# Altium footprint library 89C51.PcbLib: 27 footprints (part 1 of 2)
Each footprint in its own frame and in the unit in brackets; x right, y up, seen from the top. Pads: shape width x height; smd on the part's side, far side on the other; paste and mask are expansions set on the pad; w line width, h text height; cw(c..) or ccw(c..) is an arc to the next point about the centre after c.
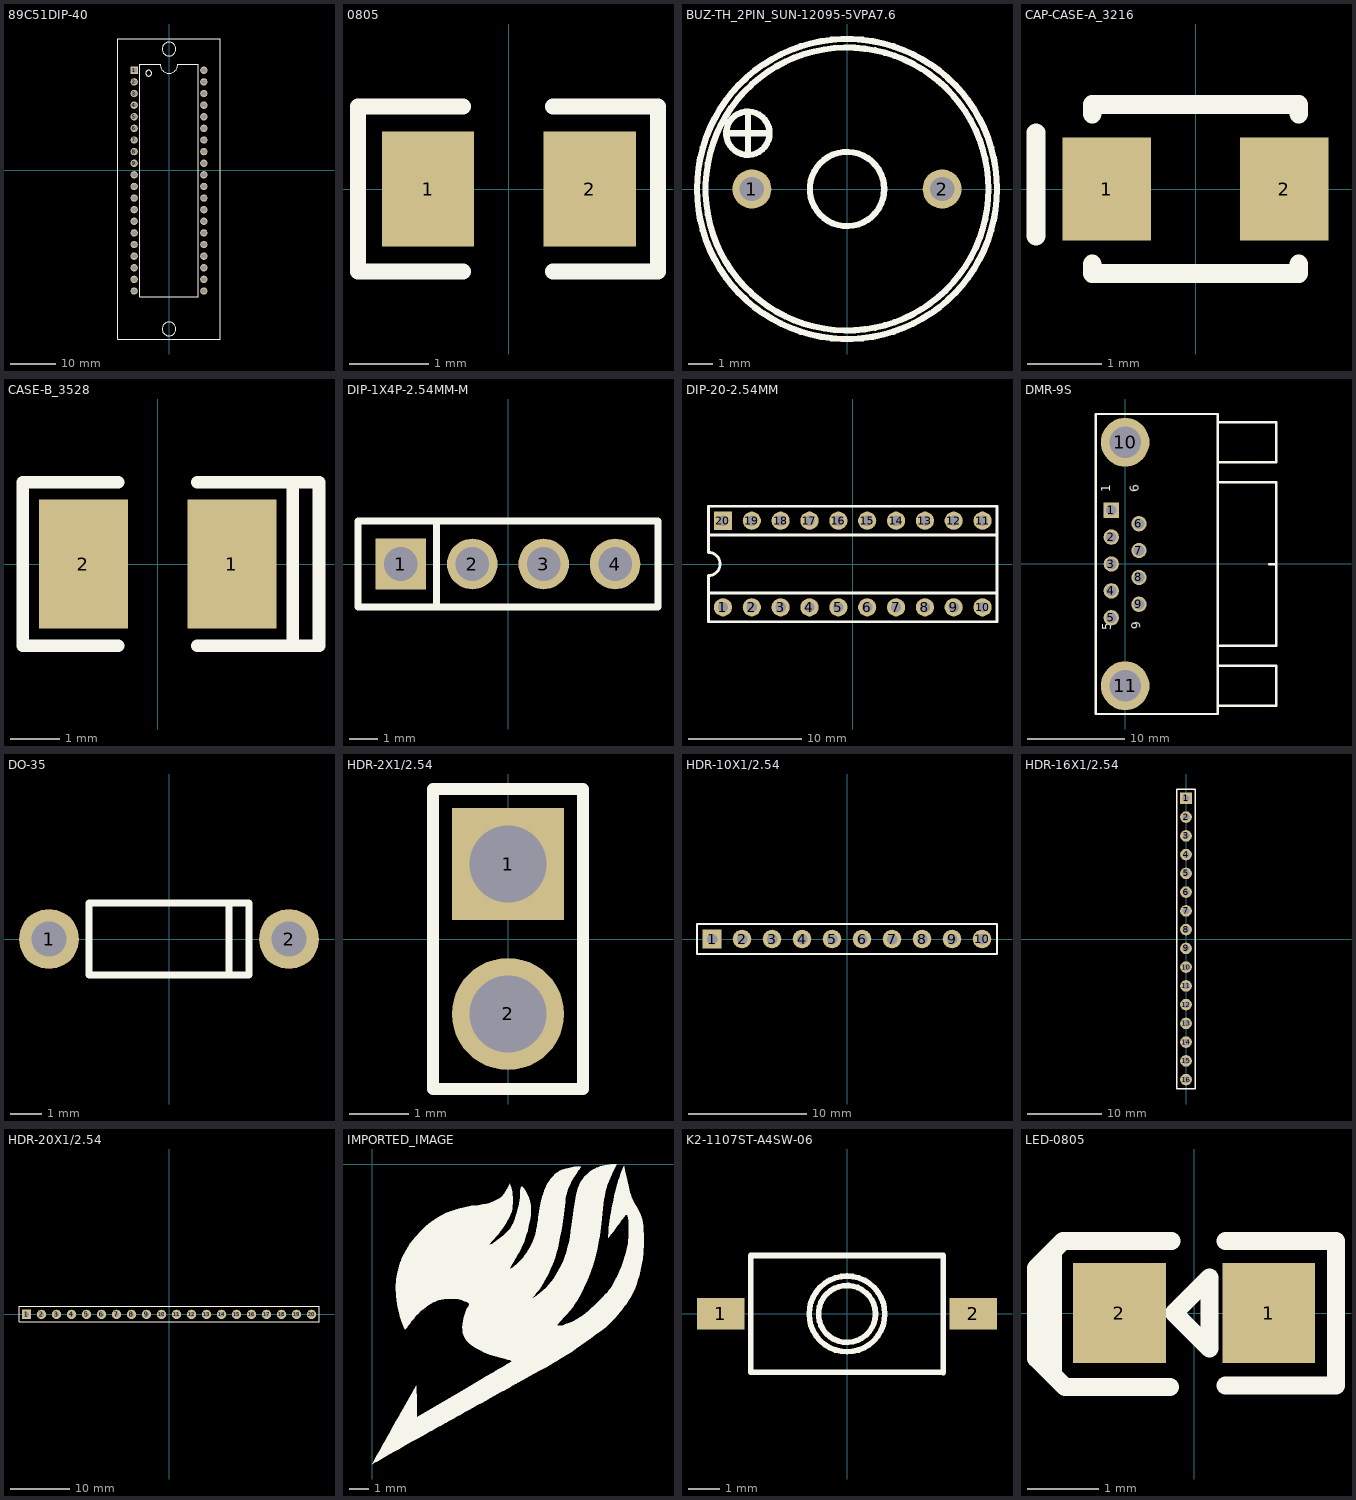
[diagram p0: the footprints below, top view; thin cyan lines are the x and y axes]

## 89C51DIP-40 [mil]
pads (40):
  rect 63x63 hole 31.5 slot 45.28 at 0 deg: 1(-300,860)
  round 63 hole 31.5 slot 45.28 at 0 deg: 2(-300,760) 3(-300,660) 4(-300,560) 5(-300,460) 6(-300,360) 7(-300,260) 8(-300,160) 9(-300,60) 10(-300,-40) 11(-300,-140) 12(-300,-240) 13(-300,-340) 14(-300,-440) 15(-300,-540) 16(-300,-640) 17(-300,-740) 18(-300,-840) 19(-300,-940) 20(-300,-1040) 21(300,-1040) 22(300,-940) 23(300,-840) 24(300,-740) 25(300,-640) 26(300,-540) 27(300,-440) 28(300,-340) 29(300,-240) 30(300,-140) 31(300,-40) 32(300,60) 33(300,160) 34(300,260) 35(300,360) 36(300,460) 37(300,560) 38(300,660) 39(300,760) 40(300,860)
Top Overlay:
  circle w10: c-175,835 r25
  circle w10: c0,-1366.77 r59.06
  circle w10: c0,1042.68 r59.06
  lines w10: -443.31,-1453.39 443.31,-1453.39 443.31,1129.29 -443.31,1129.29 -443.31,-1453.39 ; -250,-1090 250,-1090 250,910 75,910 cw(c0,910) -75,910 -250,910 -250,-1090

## 0805 [mm]
pads (2):
  rect 1.16x1.45 smd: 1(-1.016,0) 2(1.016,0)
Top Overlay:
  lines w0.2: -0.577,-1.035 -1.897,-1.035 -1.897,1.035 -0.577,1.035 ; 0.555,-1.035 1.875,-1.035 1.875,1.035 0.555,1.035

## BUZ-TH_2PIN_SUN-12095-5VPA7.6 [mm]
pads (2):
  round 1.6 hole 1: 1(-3.9,0) 2(3.9,0)
Top Overlay:
  circle w0.254: c-4.064,2.286 r0.889
  circle w0.254: c0,0 r1.524
  circle w0.254: c0,0 r5.8
  circle w0.254: c0,0 r6.15
  lines w0.254: -4.953,2.286 -3.175,2.286 ; -4.064,1.397 -4.064,3.175

## CAP-CASE-A_3216 [mm]
pads (2):
  rect 1.2x1.4 smd: 1(-1.2,0) 2(1.2,0)
Top Overlay:
  lines w0.254: -2.159,-0.635 -2.159,0.762 ; -1.397,-1.016 -1.397,-1.143 1.397,-1.143 1.397,-1.016 ; -1.397,1.016 -1.397,1.143 1.397,1.143 1.397,1.016

## CASE-B_3528 [mm]
pads (2):
  rect 1.8x2.6 smd: 1(1.501,0) 2(-1.501,0)
Top Overlay:
  lines w0.254: -0.8,-1.65 -2.727,-1.65 -2.727,1.65 -0.8,1.65 ; 0.8,-1.65 2.727,-1.65 ; 0.8,1.65 2.727,1.65 ; 2.727,-1.65 3.26,-1.65 3.26,1.65 2.727,1.65 ; 2.727,-1.65 2.727,1.65

## DIP-1X4P-2.54MM-M [mm]
pads (4):
  rect 1.8x1.8 hole 1.2: 1(-3.81,0)
  round 1.8 hole 1.2: 2(-1.27,0) 3(1.27,0) 4(3.81,0)
Top Overlay:
  lines w0.254: -2.54,-1.524 -2.54,1.524 ; -5.334,-1.524 -5.334,1.524 5.334,1.524 5.334,-1.524 -5.334,-1.524

## DIP-20-2.54MM [mil]
pads (20):
  round 63 hole 35.43: 1(-450,-150) 2(-350,-150) 3(-250,-150) 4(-150,-150) 5(-50,-150) 6(50,-150) 7(150,-150) 8(250,-150) 9(350,-150) 10(450,-150) 11(450,150) 12(350,150) 13(250,150) 14(150,150) 15(50,150) 16(-50,150) 17(-150,150) 18(-250,150) 19(-350,150)
  rect 63x63 hole 35.43: 20(-450,150)
Top Overlay:
  lines w10: -500,-100 -500,-40 ccw(c-500,0) -500,40 -500,100 ; -500,-100 500,-100 ; -500,-100 -500,-200 500,-200 500,-100 ; -500,100 500,100 ; -500,100 -500,200 500,200 500,100 ; 500,-100 500,100

## DMR-9S [mil]
pads (11):
  rect 62x62 hole 43.31: 1(-55.91,217.31)
  round 62 hole 43.31: 2(-55.91,108.66) 3(-55.91,-0.01) 4(-55.91,-108.67) 5(-55.91,-217.32) 6(55.91,162.99) 7(55.91,54.33) 8(55.91,-54.34) 9(55.91,-163)
  round 196.85 hole 127.95: 10(-0.01,492.12) 11(-0.01,-492.12)
Top Overlay:
  lines w10: 374.01,-573.62 610.24,-573.62 ; 374.01,-410.63 610.24,-410.63 610.24,-572.44 ; 374.01,-329.92 610.24,-329.92 610.24,329.52 374.01,329.52 ; 374.01,410.63 610.24,410.63 ; 374,573.61 610.21,573.61 610.21,411.81 ; 581.89,-0.2 609.45,-0.2 ; -118.11,-606.3 -118.11,606.3 374.01,606.3 374.01,-606.3 -118.11,-606.3
  text "6" at 57.5,292.14 h35
  text "9" at 63.5,-261.86 h35
  text "5" at -56.41,-267.69 h35
  text "1" at -60.41,289.31 h35

## DO-35 [mil]
pads (2):
  round 75 hole 43.31: 1(-150,0) 2(150,0)
Top Overlay:
  lines w9: 75,-45 75,45 ; -100,-45 -100,45 100,45 100,-45 -100,-45

## HDR-2X1/2.54 [mm]
pads (2):
  rect 1.9x1.9 hole 1.3: 1(0,1.27)
  round 1.9 hole 1.3: 2(0,-1.27)
Top Overlay:
  lines w0.203: -1.27,-2.54 -1.27,2.54 1.27,2.54 1.27,0.635 1.27,-2.54 -1.27,-2.54

## HDR-10X1/2.54 [mil]
pads (10):
  rect 62x62 hole 35: 1(-450,0)
  round 62 hole 35: 2(-350,0) 3(-250,0) 4(-150,0) 5(-50,0) 6(50,0) 7(150,0) 8(250,0) 9(350,0) 10(450,0)
Top Overlay:
  lines w7.99: -425,50 500,50
  lines w8: -425,50 -500,50 -500,-50 500,-50 500,50

## HDR-16X1/2.54 [mil]
pads (16):
  rect 62x62 hole 35: 1(0,750)
  round 62 hole 35: 2(0,650) 3(0,550) 4(0,450) 5(0,350) 6(0,250) 7(0,150) 8(0,50) 9(0,-50) 10(0,-150) 11(0,-250) 12(0,-350) 13(0,-450) 14(0,-550) 15(0,-650) 16(0,-750)
Top Overlay:
  lines w7.99: 50,-800 50,725
  lines w8: 50,-800 -50,-800 -50,800 50,800 50,725

## HDR-20X1/2.54 [mil]
pads (20):
  rect 62x62 hole 35: 1(-950,0)
  round 62 hole 35: 2(-850,0) 3(-750,0) 4(-650,0) 5(-550,0) 6(-450,0) 7(-350,0) 8(-250,0) 9(-150,0) 10(-50,0) 11(50,0) 12(150,0) 13(250,0) 14(350,0) 15(450,0) 16(550,0) 17(650,0) 18(750,0) 19(850,0) 20(950,0)
Top Overlay:
  lines w8: -1000,-50 1000,-50 1000,50 1000,55 -1000,55 -1000,-50

## IMPORTED_IMAGE [mil]
Top Overlay:
  drawing of 1 lines, arcs and shapes, not listed

## K2-1107ST-A4SW-06 [mm]
pads (2):
  rect 1.5x1 smd: 1(-4,0) 2(4,0)
Top Overlay:
  circle w0.178: c0,0 r0.901
  circle w0.178: c0,0 r1.2
  lines w0.178: -3.05,-1.85 3.05,-1.85 ; -3.05,1.85 3.05,1.85 ; -3.048,-1.829 -3.048,1.829 ; 3.048,-1.854 3.048,1.849

## LED-0805 [mil]
pads (2):
  rect 51.2x55.1 smd: 1(41.35,0) 2(-41.35,0)
Top Overlay:
  lines w10: -78.05,-31.55 -78.05,31.45 ; -13.55,-41.05 -71.55,-41.05 -87.55,-25.05 -87.55,24.95 -72.55,39.95 -12.55,39.95 ; 17.45,-40.05 78.45,-40.05 78.45,39.95 17.45,39.95 ; -11.15,-0.05 8.55,-19.75 8.55,19.65 ; -11.15,-0.05 -11.15,-0.05 ; -11.15,-0.05 8.55,19.65 ; 8.55,19.65 8.55,19.65